# Altium integrated library Microchip Memory SPI Serial EEPROM.IntLib: 451 symbols (part 4 of 11)
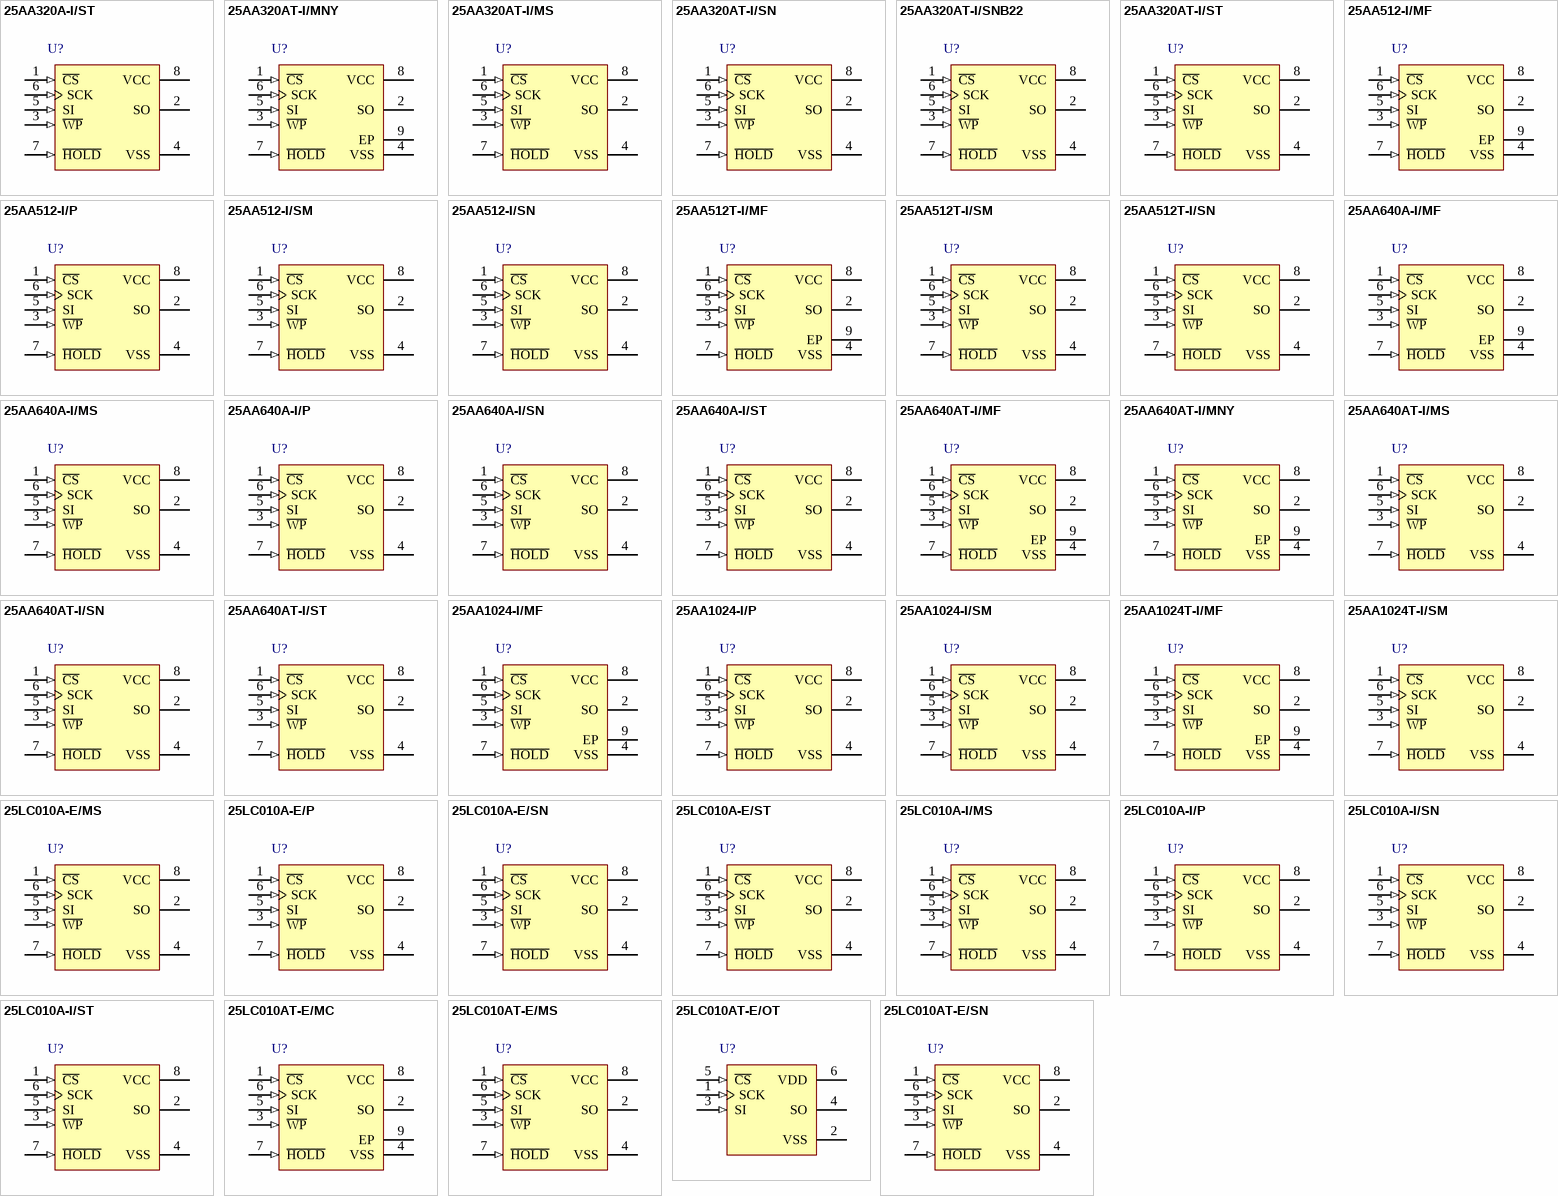
[diagram p14: symbols 25AA320A-I/ST to 25LC010AT-E/SN]

## 25AA512-I/MF
designator U?
512 Kbit SPI Bus Serial EEPROM, 8-Pin DFN, Industrial Temperature; Published: 29-Jan-2009; DatasheetVersion: revE, May-2008; PackageVersion: revBB, Aug-2009; PackageReference: DFNS-MF8_PS; Publisher: Altium Limited; PackageDescription: 8-Lead Plastic Dual Flat, No Lead Package (MF) - 6x5 mm Body [DFN-S] Punch Singulated; Supplier 1: Digi-Key; Supplier Part Number 1: 25AA512-I/MF-ND; ComponentLink1Description: Datasheet; ComponentLink1URL: http://ww1.microchip.com/downloads/en/DeviceDoc/22021E.pdf; ComponentLink2Description: Packaging Specification; ComponentLink2URL: http://www.microchip.com/stellent/groups/techpub_sg/documents/packagingspec/en012702.pdf; ComponentLink3Description: Microchip.com Home; ComponentLink3URL: http://www.microchip.com/
footprint DFNS-MF8_PS (SON, 8-Leads, Body 5x6mm, Pitch 1.27mm)
pins: 1 ~{CS} (in), 2 SO (hiz), 3 ~{WP} (in), 4 VSS (power), 5 SI (in), 6 SCK (in), 7 ~{HOLD} (in), 8 VCC (power), 9 EP

## 25AA512-I/P
designator U?
512 Kbit SPI Bus Serial EEPROM, 8-Pin PDIP, Industrial Temperature; Published: 29-Jan-2009; DatasheetVersion: revE, May-2008; PackageVersion: revBB, Aug-2009; PackageReference: PDIP300-P8; Publisher: Altium Limited; PackageDescription: 8-Lead Plastic Dual In-Line (P) - 300 mil Body [PDIP]; Supplier 1: Digi-Key; Supplier Part Number 1: 25AA512-I/P-ND; Code_JEDEC: MS-001; ComponentLink1Description: Datasheet; ComponentLink1URL: http://ww1.microchip.com/downloads/en/DeviceDoc/22021E.pdf; ComponentLink2Description: Packaging Specification; ComponentLink2URL: http://www.microchip.com/stellent/groups/techpub_sg/documents/packagingspec/en012702.pdf; ComponentLink3Description: Microchip.com Home; ComponentLink3URL: http://www.microchip.com/
footprint PDIP300-P8 (DIP, 8-Leads, Row Spacing 7.62mm, Pitch 2.54mm, Body 9.5x6.6mm)
pins: 1 ~{CS} (in), 2 SO (hiz), 3 ~{WP} (in), 4 VSS (power), 5 SI (in), 6 SCK (in), 7 ~{HOLD} (in), 8 VCC (power)

## 25AA512-I/SM
designator U?
512 Kbit SPI Bus Serial EEPROM, 8-Pin SOIC, Industrial Temperature; Published: 29-Jan-2009; DatasheetVersion: revE, May-2008; PackageVersion: revBB, Aug-2009; PackageReference: SOIJ-SM8; Publisher: Altium Limited; PackageDescription: 8-Lead Plastic Small Outline (SM) - Medium, 5.28 mm Body [SOIJ]; Supplier 1: Digi-Key; Supplier Part Number 1: 25AA512-I/SM-ND; ComponentLink1Description: Datasheet; ComponentLink1URL: http://ww1.microchip.com/downloads/en/DeviceDoc/22021E.pdf; ComponentLink2Description: Packaging Specification; ComponentLink2URL: http://www.microchip.com/stellent/groups/techpub_sg/documents/packagingspec/en012702.pdf; ComponentLink3Description: Microchip.com Home; ComponentLink3URL: http://www.microchip.com/
footprint SOIJ-SM8_N (SOP, 8-Leads, Body 5.2x5.2mm, Pitch 1.27mm, IPC Medium Density)
footprint SOIJ-SM8_L (SOP, 8-Leads, Body 5.2x5.2mm, Pitch 1.27mm, IPC High Density)
footprint SOIJ-SM8_M (SOP, 8-Leads, Body 5.2x5.2mm, Pitch 1.27mm, IPC Low Density)
pins: 1 ~{CS} (in), 2 SO (hiz), 3 ~{WP} (in), 4 VSS (power), 5 SI (in), 6 SCK (in), 7 ~{HOLD} (in), 8 VCC (power)

## 25AA512-I/SN
designator U?
512 Kbit SPI Bus Serial EEPROM, 8-Pin SOIC, Industrial Temperature; Published: 29-Jan-2009; DatasheetVersion: revE, May-2008; PackageVersion: revBB, Aug-2009; PackageReference: SOIC-SN8; Publisher: Altium Limited; PackageDescription: 8-Lead Plastic Small Outline (SN) - Narrow, 3.90mm Body [SOIC]; Supplier 1: Digi-Key; Supplier Part Number 1: 25AA512-I/SN-ND; Code_JEDEC: MS-012; Code_IPC: SOIC127P600-8; ComponentLink1Description: Datasheet; ComponentLink1URL: http://ww1.microchip.com/downloads/en/DeviceDoc/22021E.pdf; ComponentLink2Description: Packaging Specification; ComponentLink2URL: http://www.microchip.com/stellent/groups/techpub_sg/documents/packagingspec/en012702.pdf; ComponentLink3Description: Microchip.com Home; ComponentLink3URL: http://www.microchip.com/
footprint SOIC-SN8_N (SOIC, 8-Leads, Body 4.9x3.8mm, Pitch 1.27mm, IPC Medium Density)
footprint SOIC-SN8_L (SOIC, 8-Leads, Body 4.9x3.8mm, Pitch 1.27mm, IPC High Density)
footprint SOIC-SN8_M (SOIC, 8-Leads, Body 4.9x3.8mm, Pitch 1.27mm, IPC Low Density)
pins: 1 ~{CS} (in), 2 SO (hiz), 3 ~{WP} (in), 4 VSS (power), 5 SI (in), 6 SCK (in), 7 ~{HOLD} (in), 8 VCC (power)

## 25AA512T-I/MF
designator U?
512 Kbit SPI Bus Serial EEPROM, 8-Pin DFN, Industrial Temperature, Tape and Reel; Published: 29-Jan-2009; DatasheetVersion: revE, May-2008; PackageVersion: revBB, Aug-2009; PackageReference: DFNS-MF8_PS; Publisher: Altium Limited; PackageDescription: 8-Lead Plastic Dual Flat, No Lead Package (MF) - 6x5 mm Body [DFN-S] Punch Singulated; Supplier 1: Digi-Key; Supplier Part Number 1: 25AA512T-I/MFTR-ND; ComponentLink1Description: Datasheet; ComponentLink1URL: http://ww1.microchip.com/downloads/en/DeviceDoc/22021E.pdf; ComponentLink2Description: Packaging Specification; ComponentLink2URL: http://www.microchip.com/stellent/groups/techpub_sg/documents/packagingspec/en012702.pdf; ComponentLink3Description: Microchip.com Home; ComponentLink3URL: http://www.microchip.com/
footprint DFNS-MF8_PS (SON, 8-Leads, Body 5x6mm, Pitch 1.27mm)
pins: 1 ~{CS} (in), 2 SO (hiz), 3 ~{WP} (in), 4 VSS (power), 5 SI (in), 6 SCK (in), 7 ~{HOLD} (in), 8 VCC (power), 9 EP

## 25AA512T-I/SM
designator U?
512 Kbit SPI Bus Serial EEPROM, 8-Pin SOIC, Industrial Temperature, Tape and Reel; Published: 29-Jan-2009; DatasheetVersion: revE, May-2008; PackageVersion: revBB, Aug-2009; PackageReference: SOIJ-SM8; Publisher: Altium Limited; PackageDescription: 8-Lead Plastic Small Outline (SM) - Medium, 5.28 mm Body [SOIJ]; Supplier 1: Digi-Key; Supplier Part Number 1: 25AA512T-I/SMTR-ND; ComponentLink1Description: Datasheet; ComponentLink1URL: http://ww1.microchip.com/downloads/en/DeviceDoc/22021E.pdf; ComponentLink2Description: Packaging Specification; ComponentLink2URL: http://www.microchip.com/stellent/groups/techpub_sg/documents/packagingspec/en012702.pdf; ComponentLink3Description: Microchip.com Home; ComponentLink3URL: http://www.microchip.com/
footprint SOIJ-SM8_N (SOP, 8-Leads, Body 5.2x5.2mm, Pitch 1.27mm, IPC Medium Density)
footprint SOIJ-SM8_L (SOP, 8-Leads, Body 5.2x5.2mm, Pitch 1.27mm, IPC High Density)
footprint SOIJ-SM8_M (SOP, 8-Leads, Body 5.2x5.2mm, Pitch 1.27mm, IPC Low Density)
pins: 1 ~{CS} (in), 2 SO (hiz), 3 ~{WP} (in), 4 VSS (power), 5 SI (in), 6 SCK (in), 7 ~{HOLD} (in), 8 VCC (power)

## 25AA512T-I/SN
designator U?
512 Kbit SPI Bus Serial EEPROM, 8-Pin SOIC, Industrial Temperature, Tape and Reel; Published: 29-Jan-2009; DatasheetVersion: revE, May-2008; PackageVersion: revBB, Aug-2009; PackageReference: SOIC-SN8; Publisher: Altium Limited; PackageDescription: 8-Lead Plastic Small Outline (SN) - Narrow, 3.90mm Body [SOIC]; Supplier 1: Digi-Key; Supplier Part Number 1: 25AA512T-I/SNTR-ND; Code_JEDEC: MS-012; Code_IPC: SOIC127P600-8; ComponentLink1Description: Datasheet; ComponentLink1URL: http://ww1.microchip.com/downloads/en/DeviceDoc/22021E.pdf; ComponentLink2Description: Packaging Specification; ComponentLink2URL: http://www.microchip.com/stellent/groups/techpub_sg/documents/packagingspec/en012702.pdf; ComponentLink3Description: Microchip.com Home; ComponentLink3URL: http://www.microchip.com/
footprint SOIC-SN8_N (SOIC, 8-Leads, Body 4.9x3.8mm, Pitch 1.27mm, IPC Medium Density)
footprint SOIC-SN8_L (SOIC, 8-Leads, Body 4.9x3.8mm, Pitch 1.27mm, IPC High Density)
footprint SOIC-SN8_M (SOIC, 8-Leads, Body 4.9x3.8mm, Pitch 1.27mm, IPC Low Density)
pins: 1 ~{CS} (in), 2 SO (hiz), 3 ~{WP} (in), 4 VSS (power), 5 SI (in), 6 SCK (in), 7 ~{HOLD} (in), 8 VCC (power)

## 25AA640A-I/MF
designator U?
64K SPI Bus Serial EEPROM, 8-Pin DFN, Industrial Temperature; Published: 29-Jan-2009; LatestRevisionDate: 02-Dec-2009; LatestRevisionNote: Updated to datasheet revision D, Jan-2008; DatasheetVersion: revD, Oct-2008; PackageVersion: revBB, Aug-2009; PackageReference: DFNS-MF8_PS; Publisher: Altium Limited; PackageDescription: 8-Lead Plastic Dual Flat, No Lead Package (MF) - 6x5 mm Body [DFN-S] Punch Singulated; ComponentLink1Description: Datasheet; ComponentLink1URL: http://ww1.microchip.com/downloads/en/DeviceDoc/21830D.pdf; ComponentLink2Description: Packaging Specification; ComponentLink2URL: http://www.microchip.com/stellent/groups/techpub_sg/documents/packagingspec/en012702.pdf; ComponentLink3Description: Microchip.com Home; ComponentLink3URL: http://www.microchip.com/
footprint DFNS-MF8_PS (SON, 8-Leads, Body 5x6mm, Pitch 1.27mm)
pins: 1 ~{CS} (in), 2 SO (hiz), 3 ~{WP} (in), 4 VSS (power), 5 SI (in), 6 SCK (in), 7 ~{HOLD} (in), 8 VCC (power), 9 EP

## 25AA640A-I/MS
designator U?
64K SPI Bus Serial EEPROM, 8-Pin MSOP, Industrial Temperature; Published: 29-Jan-2009; LatestRevisionDate: 02-Dec-2009; LatestRevisionNote: Updated to datasheet revision D, Jan-2008; DatasheetVersion: revD, Oct-2008; PackageVersion: revBB, Aug-2009; PackageReference: MSOP-MS8; Publisher: Altium Limited; PackageDescription: 8-Lead Plastic Micro Small Outline Package (MS) [MSOP]; Supplier 1: Digi-Key; Supplier Part Number 1: 25AA640A-I/MS-ND; Supplier 2: Farnell; Supplier Part Number 2: 1818512; ComponentLink1Description: Datasheet; ComponentLink1URL: http://ww1.microchip.com/downloads/en/DeviceDoc/21830D.pdf; ComponentLink2Description: Packaging Specification; ComponentLink2URL: http://www.microchip.com/stellent/groups/techpub_sg/documents/packagingspec/en012702.pdf; ComponentLink3Description: Microchip.com Home; ComponentLink3URL: http://www.microchip.com/
footprint MSOP-MS8_N (TSOP, 8-Leads, Body 3x3mm, Pitch 0.65mm, IPC Medium Density)
footprint MSOP-MS8_L (TSOP, 8-Leads, Body 3x3mm, Pitch 0.65mm, IPC High Density)
footprint MSOP-MS8_M (TSOP, 8-Leads, Body 3x3mm, Pitch 0.65mm, IPC Low Density)
pins: 1 ~{CS} (in), 2 SO (hiz), 3 ~{WP} (in), 4 VSS (power), 5 SI (in), 6 SCK (in), 7 ~{HOLD} (in), 8 VCC (power)

## 25AA640A-I/P
designator U?
64K SPI Bus Serial EEPROM, 8-Pin PDIP, Industrial Temperature; Published: 29-Jan-2009; LatestRevisionDate: 02-Dec-2009; LatestRevisionNote: Updated to datasheet revision D, Jan-2008; DatasheetVersion: revD, Oct-2008; PackageVersion: revBB, Aug-2009; PackageReference: PDIP300-P8; Publisher: Altium Limited; PackageDescription: 8-Lead Plastic Dual In-Line (P) - 300 mil Body [PDIP]; Supplier 1: Digi-Key; Supplier Part Number 1: 25AA640A-I/P-ND; Code_JEDEC: MS-001; ComponentLink1Description: Datasheet; ComponentLink1URL: http://ww1.microchip.com/downloads/en/DeviceDoc/21830D.pdf; ComponentLink2Description: Packaging Specification; ComponentLink2URL: http://www.microchip.com/stellent/groups/techpub_sg/documents/packagingspec/en012702.pdf; ComponentLink3Description: Microchip.com Home; ComponentLink3URL: http://www.microchip.com/
footprint PDIP300-P8 (DIP, 8-Leads, Row Spacing 7.62mm, Pitch 2.54mm, Body 9.5x6.6mm)
pins: 1 ~{CS} (in), 2 SO (hiz), 3 ~{WP} (in), 4 VSS (power), 5 SI (in), 6 SCK (in), 7 ~{HOLD} (in), 8 VCC (power)

## 25AA640A-I/SN
designator U?
64K SPI Bus Serial EEPROM, 8-Pin SOIC, Industrial Temperature; Published: 29-Jan-2009; LatestRevisionDate: 02-Dec-2009; LatestRevisionNote: Updated to datasheet revision D, Jan-2008; DatasheetVersion: revD, Oct-2008; PackageVersion: revBB, Aug-2009; PackageReference: SOIC-SN8; Publisher: Altium Limited; PackageDescription: 8-Lead Plastic Small Outline (SN) - Narrow, 3.90mm Body [SOIC]; Supplier 1: Digi-Key; Supplier Part Number 1: 25AA640A-I/SN-ND; Supplier 2: Farnell; Supplier Part Number 2: 1788348; Code_JEDEC: MS-012; Code_IPC: SOIC127P600-8; ComponentLink1Description: Datasheet; ComponentLink1URL: http://ww1.microchip.com/downloads/en/DeviceDoc/21830D.pdf; ComponentLink2Description: Packaging Specification; ComponentLink2URL: http://www.microchip.com/stellent/groups/techpub_sg/documents/packagingspec/en012702.pdf; ComponentLink3Description: Microchip.com Home; ComponentLink3URL: http://www.microchip.com/
footprint SOIC-SN8_N (SOIC, 8-Leads, Body 4.9x3.8mm, Pitch 1.27mm, IPC Medium Density)
footprint SOIC-SN8_L (SOIC, 8-Leads, Body 4.9x3.8mm, Pitch 1.27mm, IPC High Density)
footprint SOIC-SN8_M (SOIC, 8-Leads, Body 4.9x3.8mm, Pitch 1.27mm, IPC Low Density)
pins: 1 ~{CS} (in), 2 SO (hiz), 3 ~{WP} (in), 4 VSS (power), 5 SI (in), 6 SCK (in), 7 ~{HOLD} (in), 8 VCC (power)

## 25AA640A-I/ST
designator U?
64K SPI Bus Serial EEPROM, 8-Pin TSSOP, Industrial Temperature; Published: 29-Jan-2009; LatestRevisionDate: 02-Dec-2009; LatestRevisionNote: Updated to datasheet revision D, Jan-2008; DatasheetVersion: revD, Oct-2008; PackageVersion: revBB, Aug-2009; PackageReference: TSSOP-ST8; Publisher: Altium Limited; PackageDescription: 8-Lead Plastic Thin Shrink Small Outline (ST) - 4.4mm Body [TSSOP]; Supplier 1: Digi-Key; Supplier Part Number 1: 25AA640A-I/ST-ND; Supplier 2: Farnell; Supplier Part Number 2: 1818513; Code_JEDEC: MO-153; ComponentLink1Description: Datasheet; ComponentLink1URL: http://ww1.microchip.com/downloads/en/DeviceDoc/21830D.pdf; ComponentLink2Description: Packaging Specification; ComponentLink2URL: http://www.microchip.com/stellent/groups/techpub_sg/documents/packagingspec/en012702.pdf; ComponentLink3Description: Microchip.com Home; ComponentLink3URL: http://www.microchip.com/
footprint TSSOP-ST8_N (TSOP, 8-Leads, Body 3x4.4mm, Pitch 0.65mm, IPC Medium Density)
footprint TSSOP-ST8_L (TSOP, 8-Leads, Body 3x4.4mm, Pitch 0.65mm, IPC High Density)
footprint TSSOP-ST8_M (TSOP, 8-Leads, Body 3x4.4mm, Pitch 0.65mm, IPC Low Density)
pins: 1 ~{CS} (in), 2 SO (hiz), 3 ~{WP} (in), 4 VSS (power), 5 SI (in), 6 SCK (in), 7 ~{HOLD} (in), 8 VCC (power)

## 25AA640AT-I/MF
designator U?
64K SPI Bus Serial EEPROM, 8-Pin DFN, Industrial Temperature, Tape and Reel; Published: 29-Jan-2009; LatestRevisionDate: 02-Dec-2009; LatestRevisionNote: Updated to datasheet revision D, Jan-2008; DatasheetVersion: revD, Oct-2008; PackageVersion: revBB, Aug-2009; PackageReference: DFNS-MF8_PS; Publisher: Altium Limited; PackageDescription: 8-Lead Plastic Dual Flat, No Lead Package (MF) - 6x5 mm Body [DFN-S] Punch Singulated; ComponentLink1Description: Datasheet; ComponentLink1URL: http://ww1.microchip.com/downloads/en/DeviceDoc/21830D.pdf; ComponentLink2Description: Packaging Specification; ComponentLink2URL: http://www.microchip.com/stellent/groups/techpub_sg/documents/packagingspec/en012702.pdf; ComponentLink3Description: Microchip.com Home; ComponentLink3URL: http://www.microchip.com/
footprint DFNS-MF8_PS (SON, 8-Leads, Body 5x6mm, Pitch 1.27mm)
pins: 1 ~{CS} (in), 2 SO (hiz), 3 ~{WP} (in), 4 VSS (power), 5 SI (in), 6 SCK (in), 7 ~{HOLD} (in), 8 VCC (power), 9 EP

## 25AA640AT-I/MNY
designator U?
64K SPI Bus Serial EEPROM, 8-Pin TDFN, Industrial Temperature, Tape and Reel; Published: 2-Dec-2009; DatasheetVersion: revD, Oct-2008; PackageVersion: revBB, Aug-2009; PackageReference: TDFN-MN8; Publisher: Altium Limited; PackageDescription: 8-Lead Plastic Dual Flat, No Lead Package (MN) - 2x3x0.75mm Body [TDFN]; Supplier 1: Digi-Key; Supplier Part Number 1: 25AA640AT-I/MNYTR-ND; Supplier 2: Digi-Key; Supplier Part Number 2: 25AA640AT-I/MNYCT-ND; Supplier 3: Digi-Key; Supplier Part Number 3: 25AA640AT-I/MNYDKR-ND; ComponentLink1Description: Datasheet; ComponentLink1URL: http://ww1.microchip.com/downloads/en/DeviceDoc/21830D.pdf; ComponentLink2Description: Packaging Specification; ComponentLink2URL: http://www.microchip.com/stellent/groups/techpub_sg/documents/packagingspec/en012702.pdf; ComponentLink3Description: Microchip.com Home; ComponentLink3URL: http://www.microchip.com/
footprint TDFN-MN8 (SON, 8-Leads, Body 2x3mm, Pitch 0.5mm, Microchip Recommended)
pins: 1 ~{CS} (in), 2 SO (hiz), 3 ~{WP} (in), 4 VSS (power), 5 SI (in), 6 SCK (in), 7 ~{HOLD} (in), 8 VCC (power), 9 EP

## 25AA640AT-I/MS
designator U?
64K SPI Bus Serial EEPROM, 8-Pin MSOP, Industrial Temperature, Tape and Reel; Published: 29-Jan-2009; LatestRevisionDate: 02-Dec-2009; LatestRevisionNote: Updated to datasheet revision D, Jan-2008; DatasheetVersion: revD, Oct-2008; PackageVersion: revBB, Aug-2009; PackageReference: MSOP-MS8; Publisher: Altium Limited; PackageDescription: 8-Lead Plastic Micro Small Outline Package (MS) [MSOP]; Supplier 1: Digi-Key; Supplier Part Number 1: 25AA640AT-I/MSTR-ND; Supplier 2: Digi-Key; Supplier Part Number 2: 25AA640AT-I/MSCT-ND; Supplier 3: Digi-Key; Supplier Part Number 3: 25AA640AT-I/MSDKR-ND; ComponentLink1Description: Datasheet; ComponentLink1URL: http://ww1.microchip.com/downloads/en/DeviceDoc/21830D.pdf; ComponentLink2Description: Packaging Specification; ComponentLink2URL: http://www.microchip.com/stellent/groups/techpub_sg/documents/packagingspec/en012702.pdf; ComponentLink3Description: Microchip.com Home; ComponentLink3URL: http://www.microchip.com/
footprint MSOP-MS8_N (TSOP, 8-Leads, Body 3x3mm, Pitch 0.65mm, IPC Medium Density)
footprint MSOP-MS8_L (TSOP, 8-Leads, Body 3x3mm, Pitch 0.65mm, IPC High Density)
footprint MSOP-MS8_M (TSOP, 8-Leads, Body 3x3mm, Pitch 0.65mm, IPC Low Density)
pins: 1 ~{CS} (in), 2 SO (hiz), 3 ~{WP} (in), 4 VSS (power), 5 SI (in), 6 SCK (in), 7 ~{HOLD} (in), 8 VCC (power)

## 25AA640AT-I/SN
designator U?
64K SPI Bus Serial EEPROM, 8-Pin SOIC, Industrial Temperature, Tape and Reel; Published: 29-Jan-2009; LatestRevisionDate: 02-Dec-2009; LatestRevisionNote: Updated to datasheet revision D, Jan-2008; DatasheetVersion: revD, Oct-2008; PackageVersion: revBB, Aug-2009; PackageReference: SOIC-SN8; Publisher: Altium Limited; PackageDescription: 8-Lead Plastic Small Outline (SN) - Narrow, 3.90mm Body [SOIC]; Supplier 1: Digi-Key; Supplier Part Number 1: 25AA640AT-I/SNTR-ND; Code_JEDEC: MS-012; Code_IPC: SOIC127P600-8; ComponentLink1Description: Datasheet; ComponentLink1URL: http://ww1.microchip.com/downloads/en/DeviceDoc/21830D.pdf; ComponentLink2Description: Packaging Specification; ComponentLink2URL: http://www.microchip.com/stellent/groups/techpub_sg/documents/packagingspec/en012702.pdf; ComponentLink3Description: Microchip.com Home; ComponentLink3URL: http://www.microchip.com/
footprint SOIC-SN8_N (SOIC, 8-Leads, Body 4.9x3.8mm, Pitch 1.27mm, IPC Medium Density)
footprint SOIC-SN8_L (SOIC, 8-Leads, Body 4.9x3.8mm, Pitch 1.27mm, IPC High Density)
footprint SOIC-SN8_M (SOIC, 8-Leads, Body 4.9x3.8mm, Pitch 1.27mm, IPC Low Density)
pins: 1 ~{CS} (in), 2 SO (hiz), 3 ~{WP} (in), 4 VSS (power), 5 SI (in), 6 SCK (in), 7 ~{HOLD} (in), 8 VCC (power)

## 25AA640AT-I/ST
designator U?
64K SPI Bus Serial EEPROM, 8-Pin TSSOP, Industrial Temperature, Tape and Reel; Published: 29-Jan-2009; LatestRevisionDate: 02-Dec-2009; LatestRevisionNote: Updated to datasheet revision D, Jan-2008; DatasheetVersion: revD, Oct-2008; PackageVersion: revBB, Aug-2009; PackageReference: TSSOP-ST8; Publisher: Altium Limited; PackageDescription: 8-Lead Plastic Thin Shrink Small Outline (ST) - 4.4mm Body [TSSOP]; Supplier 1: Digi-Key; Supplier Part Number 1: 25AA640AT-I/STTR-ND; Code_JEDEC: MO-153; ComponentLink1Description: Datasheet; ComponentLink1URL: http://ww1.microchip.com/downloads/en/DeviceDoc/21830D.pdf; ComponentLink2Description: Packaging Specification; ComponentLink2URL: http://www.microchip.com/stellent/groups/techpub_sg/documents/packagingspec/en012702.pdf; ComponentLink3Description: Microchip.com Home; ComponentLink3URL: http://www.microchip.com/
footprint TSSOP-ST8_N (TSOP, 8-Leads, Body 3x4.4mm, Pitch 0.65mm, IPC Medium Density)
footprint TSSOP-ST8_L (TSOP, 8-Leads, Body 3x4.4mm, Pitch 0.65mm, IPC High Density)
footprint TSSOP-ST8_M (TSOP, 8-Leads, Body 3x4.4mm, Pitch 0.65mm, IPC Low Density)
pins: 1 ~{CS} (in), 2 SO (hiz), 3 ~{WP} (in), 4 VSS (power), 5 SI (in), 6 SCK (in), 7 ~{HOLD} (in), 8 VCC (power)

## 25AA1024-I/MF
designator U?
1 Mbit SPI Bus Serial EEPROM, 8-Pin DFN, Industrial Temperature; Published: 29-Jan-2009; DatasheetVersion: revF, May-2008; PackageVersion: revBB, Aug-2009; PackageReference: DFNS-MF8_PS; Publisher: Altium Limited; PackageDescription: 8-Lead Plastic Dual Flat, No Lead Package (MF) - 6x5 mm Body [DFN-S] Punch Singulated; Supplier 1: Digi-Key; Supplier Part Number 1: 25AA1024-I/MF-ND; Supplier 2: Farnell; Supplier Part Number 2: 1617312; ComponentLink1Description: Datasheet; ComponentLink1URL: http://ww1.microchip.com/downloads/en/DeviceDoc/21836F.pdf; ComponentLink2Description: Packaging Specification; ComponentLink2URL: http://www.microchip.com/stellent/groups/techpub_sg/documents/packagingspec/en012702.pdf; ComponentLink3Description: Microchip.com Home; ComponentLink3URL: http://www.microchip.com/
footprint DFNS-MF8_PS (SON, 8-Leads, Body 5x6mm, Pitch 1.27mm)
pins: 1 ~{CS} (in), 2 SO (hiz), 3 ~{WP} (in), 4 VSS (power), 5 SI (in), 6 SCK (in), 7 ~{HOLD} (in), 8 VCC (power), 9 EP

## 25AA1024-I/P
designator U?
1 Mbit SPI Bus Serial EEPROM, 8-Pin PDIP, Industrial Temperature; Published: 29-Jan-2009; DatasheetVersion: revF, May-2008; PackageVersion: revBB, Aug-2009; PackageReference: PDIP300-P8; Publisher: Altium Limited; PackageDescription: 8-Lead Plastic Dual In-Line (P) - 300 mil Body [PDIP]; Supplier 1: Digi-Key; Supplier Part Number 1: 25AA1024-I/P-ND; Supplier 2: Farnell; Supplier Part Number 2: 1548441; Code_JEDEC: MS-001; ComponentLink1Description: Datasheet; ComponentLink1URL: http://ww1.microchip.com/downloads/en/DeviceDoc/21836F.pdf; ComponentLink2Description: Packaging Specification; ComponentLink2URL: http://www.microchip.com/stellent/groups/techpub_sg/documents/packagingspec/en012702.pdf; ComponentLink3Description: Microchip.com Home; ComponentLink3URL: http://www.microchip.com/
footprint PDIP300-P8 (DIP, 8-Leads, Row Spacing 7.62mm, Pitch 2.54mm, Body 9.5x6.6mm)
pins: 1 ~{CS} (in), 2 SO (hiz), 3 ~{WP} (in), 4 VSS (power), 5 SI (in), 6 SCK (in), 7 ~{HOLD} (in), 8 VCC (power)

## 25AA1024-I/SM
designator U?
1 Mbit SPI Bus Serial EEPROM, 8-Pin SOIC, Industrial Temperature; Published: 29-Jan-2009; DatasheetVersion: revF, May-2008; PackageVersion: revBB, Aug-2009; PackageReference: SOIJ-SM8; Publisher: Altium Limited; PackageDescription: 8-Lead Plastic Small Outline (SM) - Medium, 5.28 mm Body [SOIJ]; Supplier 1: Digi-Key; Supplier Part Number 1: 25AA1024-I/SM-ND; Supplier 2: Farnell; Supplier Part Number 2: 1555678; ComponentLink1Description: Datasheet; ComponentLink1URL: http://ww1.microchip.com/downloads/en/DeviceDoc/21836F.pdf; ComponentLink2Description: Packaging Specification; ComponentLink2URL: http://www.microchip.com/stellent/groups/techpub_sg/documents/packagingspec/en012702.pdf; ComponentLink3Description: Microchip.com Home; ComponentLink3URL: http://www.microchip.com/
footprint SOIJ-SM8_N (SOP, 8-Leads, Body 5.2x5.2mm, Pitch 1.27mm, IPC Medium Density)
footprint SOIJ-SM8_L (SOP, 8-Leads, Body 5.2x5.2mm, Pitch 1.27mm, IPC High Density)
footprint SOIJ-SM8_M (SOP, 8-Leads, Body 5.2x5.2mm, Pitch 1.27mm, IPC Low Density)
pins: 1 ~{CS} (in), 2 SO (hiz), 3 ~{WP} (in), 4 VSS (power), 5 SI (in), 6 SCK (in), 7 ~{HOLD} (in), 8 VCC (power)

## 25AA1024T-I/MF
designator U?
1 Mbit SPI Bus Serial EEPROM, 8-Pin DFN, Industrial Temperature, Tape and Reel; Published: 29-Jan-2009; DatasheetVersion: revF, May-2008; PackageVersion: revBB, Aug-2009; PackageReference: DFNS-MF8_PS; Publisher: Altium Limited; PackageDescription: 8-Lead Plastic Dual Flat, No Lead Package (MF) - 6x5 mm Body [DFN-S] Punch Singulated; Supplier 1: Digi-Key; Supplier Part Number 1: 25AA1024T-I/MFTR-ND; ComponentLink1Description: Datasheet; ComponentLink1URL: http://ww1.microchip.com/downloads/en/DeviceDoc/21836F.pdf; ComponentLink2Description: Packaging Specification; ComponentLink2URL: http://www.microchip.com/stellent/groups/techpub_sg/documents/packagingspec/en012702.pdf; ComponentLink3Description: Microchip.com Home; ComponentLink3URL: http://www.microchip.com/
footprint DFNS-MF8_PS (SON, 8-Leads, Body 5x6mm, Pitch 1.27mm)
pins: 1 ~{CS} (in), 2 SO (hiz), 3 ~{WP} (in), 4 VSS (power), 5 SI (in), 6 SCK (in), 7 ~{HOLD} (in), 8 VCC (power), 9 EP

## 25AA1024T-I/SM
designator U?
1 Mbit SPI Bus Serial EEPROM, 8-Pin SOIC, Industrial Temperature, Tape and Reel; Published: 29-Jan-2009; DatasheetVersion: revF, May-2008; PackageVersion: revBB, Aug-2009; PackageReference: SOIJ-SM8; Publisher: Altium Limited; PackageDescription: 8-Lead Plastic Small Outline (SM) - Medium, 5.28 mm Body [SOIJ]; Supplier 1: Digi-Key; Supplier Part Number 1: 25AA1024T-I/SMTR-ND; ComponentLink1Description: Datasheet; ComponentLink1URL: http://ww1.microchip.com/downloads/en/DeviceDoc/21836F.pdf; ComponentLink2Description: Packaging Specification; ComponentLink2URL: http://www.microchip.com/stellent/groups/techpub_sg/documents/packagingspec/en012702.pdf; ComponentLink3Description: Microchip.com Home; ComponentLink3URL: http://www.microchip.com/
footprint SOIJ-SM8_N (SOP, 8-Leads, Body 5.2x5.2mm, Pitch 1.27mm, IPC Medium Density)
footprint SOIJ-SM8_L (SOP, 8-Leads, Body 5.2x5.2mm, Pitch 1.27mm, IPC High Density)
footprint SOIJ-SM8_M (SOP, 8-Leads, Body 5.2x5.2mm, Pitch 1.27mm, IPC Low Density)
pins: 1 ~{CS} (in), 2 SO (hiz), 3 ~{WP} (in), 4 VSS (power), 5 SI (in), 6 SCK (in), 7 ~{HOLD} (in), 8 VCC (power)

## 25LC010A-E/MS
designator U?
1K SPI Bus Serial EEPROM, 8-Pin MSOP, Extended Temperature; Published: 29-Jan-2009; LatestRevisionDate: 02-Dec-2009; LatestRevisionNote: Updated to datasheet revision E, Jan-2008; DatasheetVersion: revE, Sep-2008; PackageVersion: revBB, Aug-2009; PackageReference: MSOP-MS8; Publisher: Altium Limited; PackageDescription: 8-Lead Plastic Micro Small Outline Package (MS) [MSOP]; Supplier 1: Digi-Key; Supplier Part Number 1: 25LC010A-E/MS-ND; ComponentLink1Description: Datasheet; ComponentLink1URL: http://ww1.microchip.com/downloads/en/DeviceDoc/21832E.pdf; ComponentLink2Description: Packaging Specification; ComponentLink2URL: http://www.microchip.com/stellent/groups/techpub_sg/documents/packagingspec/en012702.pdf; ComponentLink3Description: Microchip.com Home; ComponentLink3URL: http://www.microchip.com/
footprint MSOP-MS8_N (TSOP, 8-Leads, Body 3x3mm, Pitch 0.65mm, IPC Medium Density)
footprint MSOP-MS8_L (TSOP, 8-Leads, Body 3x3mm, Pitch 0.65mm, IPC High Density)
footprint MSOP-MS8_M (TSOP, 8-Leads, Body 3x3mm, Pitch 0.65mm, IPC Low Density)
pins: 1 ~{CS} (in), 2 SO (hiz), 3 ~{WP} (in), 4 VSS (power), 5 SI (in), 6 SCK (in), 7 ~{HOLD} (in), 8 VCC (power)

## 25LC010A-E/P
designator U?
1K SPI Bus Serial EEPROM, 8-Pin PDIP, Extended Temperature; Published: 29-Jan-2009; LatestRevisionDate: 02-Dec-2009; LatestRevisionNote: Updated to datasheet revision E, Jan-2008; DatasheetVersion: revE, Sep-2008; PackageVersion: revBB, Aug-2009; PackageReference: PDIP300-P8; Publisher: Altium Limited; PackageDescription: 8-Lead Plastic Dual In-Line (P) - 300 mil Body [PDIP]; Supplier 1: Digi-Key; Supplier Part Number 1: 25LC010A-E/P-ND; Code_JEDEC: MS-001; ComponentLink1Description: Datasheet; ComponentLink1URL: http://ww1.microchip.com/downloads/en/DeviceDoc/21832E.pdf; ComponentLink2Description: Packaging Specification; ComponentLink2URL: http://www.microchip.com/stellent/groups/techpub_sg/documents/packagingspec/en012702.pdf; ComponentLink3Description: Microchip.com Home; ComponentLink3URL: http://www.microchip.com/
footprint PDIP300-P8 (DIP, 8-Leads, Row Spacing 7.62mm, Pitch 2.54mm, Body 9.5x6.6mm)
pins: 1 ~{CS} (in), 2 SO (hiz), 3 ~{WP} (in), 4 VSS (power), 5 SI (in), 6 SCK (in), 7 ~{HOLD} (in), 8 VCC (power)

## 25LC010A-E/SN
designator U?
1K SPI Bus Serial EEPROM, 8-Pin SOIC, Extended Temperature; Published: 29-Jan-2009; LatestRevisionDate: 02-Dec-2009; LatestRevisionNote: Updated to datasheet revision E, Jan-2008; DatasheetVersion: revE, Sep-2008; PackageVersion: revBB, Aug-2009; PackageReference: SOIC-SN8; Publisher: Altium Limited; PackageDescription: 8-Lead Plastic Small Outline (SN) - Narrow, 3.90mm Body [SOIC]; Supplier 1: Digi-Key; Supplier Part Number 1: 25LC010A-E/SN-ND; Code_JEDEC: MS-012; Code_IPC: SOIC127P600-8; ComponentLink1Description: Datasheet; ComponentLink1URL: http://ww1.microchip.com/downloads/en/DeviceDoc/21832E.pdf; ComponentLink2Description: Packaging Specification; ComponentLink2URL: http://www.microchip.com/stellent/groups/techpub_sg/documents/packagingspec/en012702.pdf; ComponentLink3Description: Microchip.com Home; ComponentLink3URL: http://www.microchip.com/
footprint SOIC-SN8_N (SOIC, 8-Leads, Body 4.9x3.8mm, Pitch 1.27mm, IPC Medium Density)
footprint SOIC-SN8_L (SOIC, 8-Leads, Body 4.9x3.8mm, Pitch 1.27mm, IPC High Density)
footprint SOIC-SN8_M (SOIC, 8-Leads, Body 4.9x3.8mm, Pitch 1.27mm, IPC Low Density)
pins: 1 ~{CS} (in), 2 SO (hiz), 3 ~{WP} (in), 4 VSS (power), 5 SI (in), 6 SCK (in), 7 ~{HOLD} (in), 8 VCC (power)

## 25LC010A-E/ST
designator U?
1K SPI Bus Serial EEPROM, 8-Pin TSSOP, Extended Temperature; Published: 29-Jan-2009; LatestRevisionDate: 02-Dec-2009; LatestRevisionNote: Updated to datasheet revision E, Jan-2008; DatasheetVersion: revE, Sep-2008; PackageVersion: revBB, Aug-2009; PackageReference: TSSOP-ST8; Publisher: Altium Limited; PackageDescription: 8-Lead Plastic Thin Shrink Small Outline (ST) - 4.4mm Body [TSSOP]; Supplier 1: Digi-Key; Supplier Part Number 1: 25LC010A-E/ST-ND; Code_JEDEC: MO-153; ComponentLink1Description: Datasheet; ComponentLink1URL: http://ww1.microchip.com/downloads/en/DeviceDoc/21832E.pdf; ComponentLink2Description: Packaging Specification; ComponentLink2URL: http://www.microchip.com/stellent/groups/techpub_sg/documents/packagingspec/en012702.pdf; ComponentLink3Description: Microchip.com Home; ComponentLink3URL: http://www.microchip.com/
footprint TSSOP-ST8_N (TSOP, 8-Leads, Body 3x4.4mm, Pitch 0.65mm, IPC Medium Density)
footprint TSSOP-ST8_L (TSOP, 8-Leads, Body 3x4.4mm, Pitch 0.65mm, IPC High Density)
footprint TSSOP-ST8_M (TSOP, 8-Leads, Body 3x4.4mm, Pitch 0.65mm, IPC Low Density)
pins: 1 ~{CS} (in), 2 SO (hiz), 3 ~{WP} (in), 4 VSS (power), 5 SI (in), 6 SCK (in), 7 ~{HOLD} (in), 8 VCC (power)

## 25LC010A-I/MS
designator U?
1K SPI Bus Serial EEPROM, 8-Pin MSOP, Industrial Temperature; Published: 29-Jan-2009; LatestRevisionDate: 02-Dec-2009; LatestRevisionNote: Updated to datasheet revision E, Jan-2008; DatasheetVersion: revE, Sep-2008; PackageVersion: revBB, Aug-2009; PackageReference: MSOP-MS8; Publisher: Altium Limited; PackageDescription: 8-Lead Plastic Micro Small Outline Package (MS) [MSOP]; Supplier 1: Digi-Key; Supplier Part Number 1: 25LC010A-I/MS-ND; Supplier 2: Farnell; Supplier Part Number 2: 1331376; ComponentLink1Description: Datasheet; ComponentLink1URL: http://ww1.microchip.com/downloads/en/DeviceDoc/21832E.pdf; ComponentLink2Description: Packaging Specification; ComponentLink2URL: http://www.microchip.com/stellent/groups/techpub_sg/documents/packagingspec/en012702.pdf; ComponentLink3Description: Microchip.com Home; ComponentLink3URL: http://www.microchip.com/
footprint MSOP-MS8_N (TSOP, 8-Leads, Body 3x3mm, Pitch 0.65mm, IPC Medium Density)
footprint MSOP-MS8_L (TSOP, 8-Leads, Body 3x3mm, Pitch 0.65mm, IPC High Density)
footprint MSOP-MS8_M (TSOP, 8-Leads, Body 3x3mm, Pitch 0.65mm, IPC Low Density)
pins: 1 ~{CS} (in), 2 SO (hiz), 3 ~{WP} (in), 4 VSS (power), 5 SI (in), 6 SCK (in), 7 ~{HOLD} (in), 8 VCC (power)

## 25LC010A-I/P
designator U?
1K SPI Bus Serial EEPROM, 8-Pin PDIP, Industrial Temperature; Published: 29-Jan-2009; LatestRevisionDate: 02-Dec-2009; LatestRevisionNote: Updated to datasheet revision E, Jan-2008; DatasheetVersion: revE, Sep-2008; PackageVersion: revBB, Aug-2009; PackageReference: PDIP300-P8; Publisher: Altium Limited; PackageDescription: 8-Lead Plastic Dual In-Line (P) - 300 mil Body [PDIP]; Supplier 1: Digi-Key; Supplier Part Number 1: 25LC010A-I/P-ND; Supplier 2: Farnell; Supplier Part Number 2: 1331377; Code_JEDEC: MS-001; ComponentLink1Description: Datasheet; ComponentLink1URL: http://ww1.microchip.com/downloads/en/DeviceDoc/21832E.pdf; ComponentLink2Description: Packaging Specification; ComponentLink2URL: http://www.microchip.com/stellent/groups/techpub_sg/documents/packagingspec/en012702.pdf; ComponentLink3Description: Microchip.com Home; ComponentLink3URL: http://www.microchip.com/
footprint PDIP300-P8 (DIP, 8-Leads, Row Spacing 7.62mm, Pitch 2.54mm, Body 9.5x6.6mm)
pins: 1 ~{CS} (in), 2 SO (hiz), 3 ~{WP} (in), 4 VSS (power), 5 SI (in), 6 SCK (in), 7 ~{HOLD} (in), 8 VCC (power)

## 25LC010A-I/SN
designator U?
1K SPI Bus Serial EEPROM, 8-Pin SOIC, Industrial Temperature; Published: 29-Jan-2009; LatestRevisionDate: 02-Dec-2009; LatestRevisionNote: Updated to datasheet revision E, Jan-2008; DatasheetVersion: revE, Sep-2008; PackageVersion: revBB, Aug-2009; PackageReference: SOIC-SN8; Publisher: Altium Limited; PackageDescription: 8-Lead Plastic Small Outline (SN) - Narrow, 3.90mm Body [SOIC]; Supplier 1: Digi-Key; Supplier Part Number 1: 25LC010A-I/SN-ND; Supplier 2: Farnell; Supplier Part Number 2: 1331378; Code_JEDEC: MS-012; Code_IPC: SOIC127P600-8; ComponentLink1Description: Datasheet; ComponentLink1URL: http://ww1.microchip.com/downloads/en/DeviceDoc/21832E.pdf; ComponentLink2Description: Packaging Specification; ComponentLink2URL: http://www.microchip.com/stellent/groups/techpub_sg/documents/packagingspec/en012702.pdf; ComponentLink3Description: Microchip.com Home; ComponentLink3URL: http://www.microchip.com/
footprint SOIC-SN8_N (SOIC, 8-Leads, Body 4.9x3.8mm, Pitch 1.27mm, IPC Medium Density)
footprint SOIC-SN8_L (SOIC, 8-Leads, Body 4.9x3.8mm, Pitch 1.27mm, IPC High Density)
footprint SOIC-SN8_M (SOIC, 8-Leads, Body 4.9x3.8mm, Pitch 1.27mm, IPC Low Density)
pins: 1 ~{CS} (in), 2 SO (hiz), 3 ~{WP} (in), 4 VSS (power), 5 SI (in), 6 SCK (in), 7 ~{HOLD} (in), 8 VCC (power)

## 25LC010A-I/ST
designator U?
1K SPI Bus Serial EEPROM, 8-Pin TSSOP, Industrial Temperature; Published: 29-Jan-2009; LatestRevisionDate: 02-Dec-2009; LatestRevisionNote: Updated to datasheet revision E, Jan-2008; DatasheetVersion: revE, Sep-2008; PackageVersion: revBB, Aug-2009; PackageReference: TSSOP-ST8; Publisher: Altium Limited; PackageDescription: 8-Lead Plastic Thin Shrink Small Outline (ST) - 4.4mm Body [TSSOP]; Supplier 1: Digi-Key; Supplier Part Number 1: 25LC010A-I/ST-ND; Code_JEDEC: MO-153; ComponentLink1Description: Datasheet; ComponentLink1URL: http://ww1.microchip.com/downloads/en/DeviceDoc/21832E.pdf; ComponentLink2Description: Packaging Specification; ComponentLink2URL: http://www.microchip.com/stellent/groups/techpub_sg/documents/packagingspec/en012702.pdf; ComponentLink3Description: Microchip.com Home; ComponentLink3URL: http://www.microchip.com/
footprint TSSOP-ST8_N (TSOP, 8-Leads, Body 3x4.4mm, Pitch 0.65mm, IPC Medium Density)
footprint TSSOP-ST8_L (TSOP, 8-Leads, Body 3x4.4mm, Pitch 0.65mm, IPC High Density)
footprint TSSOP-ST8_M (TSOP, 8-Leads, Body 3x4.4mm, Pitch 0.65mm, IPC Low Density)
pins: 1 ~{CS} (in), 2 SO (hiz), 3 ~{WP} (in), 4 VSS (power), 5 SI (in), 6 SCK (in), 7 ~{HOLD} (in), 8 VCC (power)

## 25LC010AT-E/MC
designator U?
1K SPI Bus Serial EEPROM, 8-Pin DFN, Extended Temperature, Tape and Reel; Published: 29-Jan-2009; LatestRevisionDate: 02-Dec-2009; LatestRevisionNote: Updated to datasheet revision E, Jan-2008; DatasheetVersion: revE, Sep-2008; PackageVersion: revBB, Aug-2009; PackageReference: DFN-MC8; Publisher: Altium Limited; PackageDescription: 8-Lead Plastic Dual Flat, No Lead Package (MC) - 2x3x0.9mm Body [DFN]; Supplier 1: Digi-Key; Supplier Part Number 1: 25LC010AT-E/MC-ND; ComponentLink1Description: Datasheet; ComponentLink1URL: http://ww1.microchip.com/downloads/en/DeviceDoc/21832E.pdf; ComponentLink2Description: Packaging Specification; ComponentLink2URL: http://www.microchip.com/stellent/groups/techpub_sg/documents/packagingspec/en012702.pdf; ComponentLink3Description: Microchip.com Home; ComponentLink3URL: http://www.microchip.com/
footprint DFN-MC8 (SON, 8-Leads, Body 2x3mm, Pitch 0.5mm, Microchip Recommended)
pins: 1 ~{CS} (in), 2 SO (hiz), 3 ~{WP} (in), 4 VSS (power), 5 SI (in), 6 SCK (in), 7 ~{HOLD} (in), 8 VCC (power), 9 EP

## 25LC010AT-E/MS
designator U?
1K SPI Bus Serial EEPROM, 8-Pin MSOP, Extended Temperature, Tape and Reel; Published: 29-Jan-2009; LatestRevisionDate: 02-Dec-2009; LatestRevisionNote: Updated to datasheet revision E, Jan-2008; DatasheetVersion: revE, Sep-2008; PackageVersion: revBB, Aug-2009; PackageReference: MSOP-MS8; Publisher: Altium Limited; PackageDescription: 8-Lead Plastic Micro Small Outline Package (MS) [MSOP]; Supplier 1: Digi-Key; Supplier Part Number 1: 25LC010AT-E/MS-ND; ComponentLink1Description: Datasheet; ComponentLink1URL: http://ww1.microchip.com/downloads/en/DeviceDoc/21832E.pdf; ComponentLink2Description: Packaging Specification; ComponentLink2URL: http://www.microchip.com/stellent/groups/techpub_sg/documents/packagingspec/en012702.pdf; ComponentLink3Description: Microchip.com Home; ComponentLink3URL: http://www.microchip.com/
footprint MSOP-MS8_N (TSOP, 8-Leads, Body 3x3mm, Pitch 0.65mm, IPC Medium Density)
footprint MSOP-MS8_L (TSOP, 8-Leads, Body 3x3mm, Pitch 0.65mm, IPC High Density)
footprint MSOP-MS8_M (TSOP, 8-Leads, Body 3x3mm, Pitch 0.65mm, IPC Low Density)
pins: 1 ~{CS} (in), 2 SO (hiz), 3 ~{WP} (in), 4 VSS (power), 5 SI (in), 6 SCK (in), 7 ~{HOLD} (in), 8 VCC (power)

## 25LC010AT-E/OT
designator U?
1K SPI Bus Serial EEPROM, 6-Pin SOT-23, Extended Temperature, Tape and Reel; Published: 29-Jan-2009; LatestRevisionDate: 02-Dec-2009; LatestRevisionNote: Updated to datasheet revision E, Jan-2008; DatasheetVersion: revE, Sep-2008; PackageVersion: revBB, Aug-2009; PackageReference: SOT-23-OT6; Publisher: Altium Limited; PackageDescription: 6-Lead Plastic Small Outline Transistor (OT) [SOT-23]; Supplier 1: Digi-Key; Supplier Part Number 1: 25LC010AT-E/OTTR-ND; Code_IPC: SOT26A-6; ComponentLink1Description: Datasheet; ComponentLink1URL: http://ww1.microchip.com/downloads/en/DeviceDoc/21832E.pdf; ComponentLink2Description: Packaging Specification; ComponentLink2URL: http://www.microchip.com/stellent/groups/techpub_sg/documents/packagingspec/en012702.pdf; ComponentLink3Description: Microchip.com Home; ComponentLink3URL: http://www.microchip.com/
footprint SOT-23-OT6_N (SOT23, 6-Leads, Body 2.9x1.6mm, Pitch 0.95mm, Lead Span 2.7mm, IPC Medium Density)
footprint SOT-23-OT6_L (SOT23, 6-Leads, Body 2.9x1.6mm, Pitch 0.95mm, Lead Span 2.7mm, IPC High Density)
footprint SOT-23-OT6_M (SOT23, 6-Leads, Body 2.9x1.6mm, Pitch 0.95mm, Lead Span 2.7mm, IPC Low Density)
pins: 1 SCK (in), 2 VSS (power), 3 SI (in), 4 SO (hiz), 5 ~{CS} (in), 6 VDD (power)

## 25LC010AT-E/SN
designator U?
1K SPI Bus Serial EEPROM, 8-Pin SOIC, Extended Temperature, Tape and Reel; Published: 29-Jan-2009; LatestRevisionDate: 02-Dec-2009; LatestRevisionNote: Updated to datasheet revision E, Jan-2008; DatasheetVersion: revE, Sep-2008; PackageVersion: revBB, Aug-2009; PackageReference: SOIC-SN8; Publisher: Altium Limited; PackageDescription: 8-Lead Plastic Small Outline (SN) - Narrow, 3.90mm Body [SOIC]; Supplier 1: Digi-Key; Supplier Part Number 1: 25LC010AT-E/SN-ND; Code_JEDEC: MS-012; Code_IPC: SOIC127P600-8; ComponentLink1Description: Datasheet; ComponentLink1URL: http://ww1.microchip.com/downloads/en/DeviceDoc/21832E.pdf; ComponentLink2Description: Packaging Specification; ComponentLink2URL: http://www.microchip.com/stellent/groups/techpub_sg/documents/packagingspec/en012702.pdf; ComponentLink3Description: Microchip.com Home; ComponentLink3URL: http://www.microchip.com/
footprint SOIC-SN8_N (SOIC, 8-Leads, Body 4.9x3.8mm, Pitch 1.27mm, IPC Medium Density)
footprint SOIC-SN8_L (SOIC, 8-Leads, Body 4.9x3.8mm, Pitch 1.27mm, IPC High Density)
footprint SOIC-SN8_M (SOIC, 8-Leads, Body 4.9x3.8mm, Pitch 1.27mm, IPC Low Density)
pins: 1 ~{CS} (in), 2 SO (hiz), 3 ~{WP} (in), 4 VSS (power), 5 SI (in), 6 SCK (in), 7 ~{HOLD} (in), 8 VCC (power)

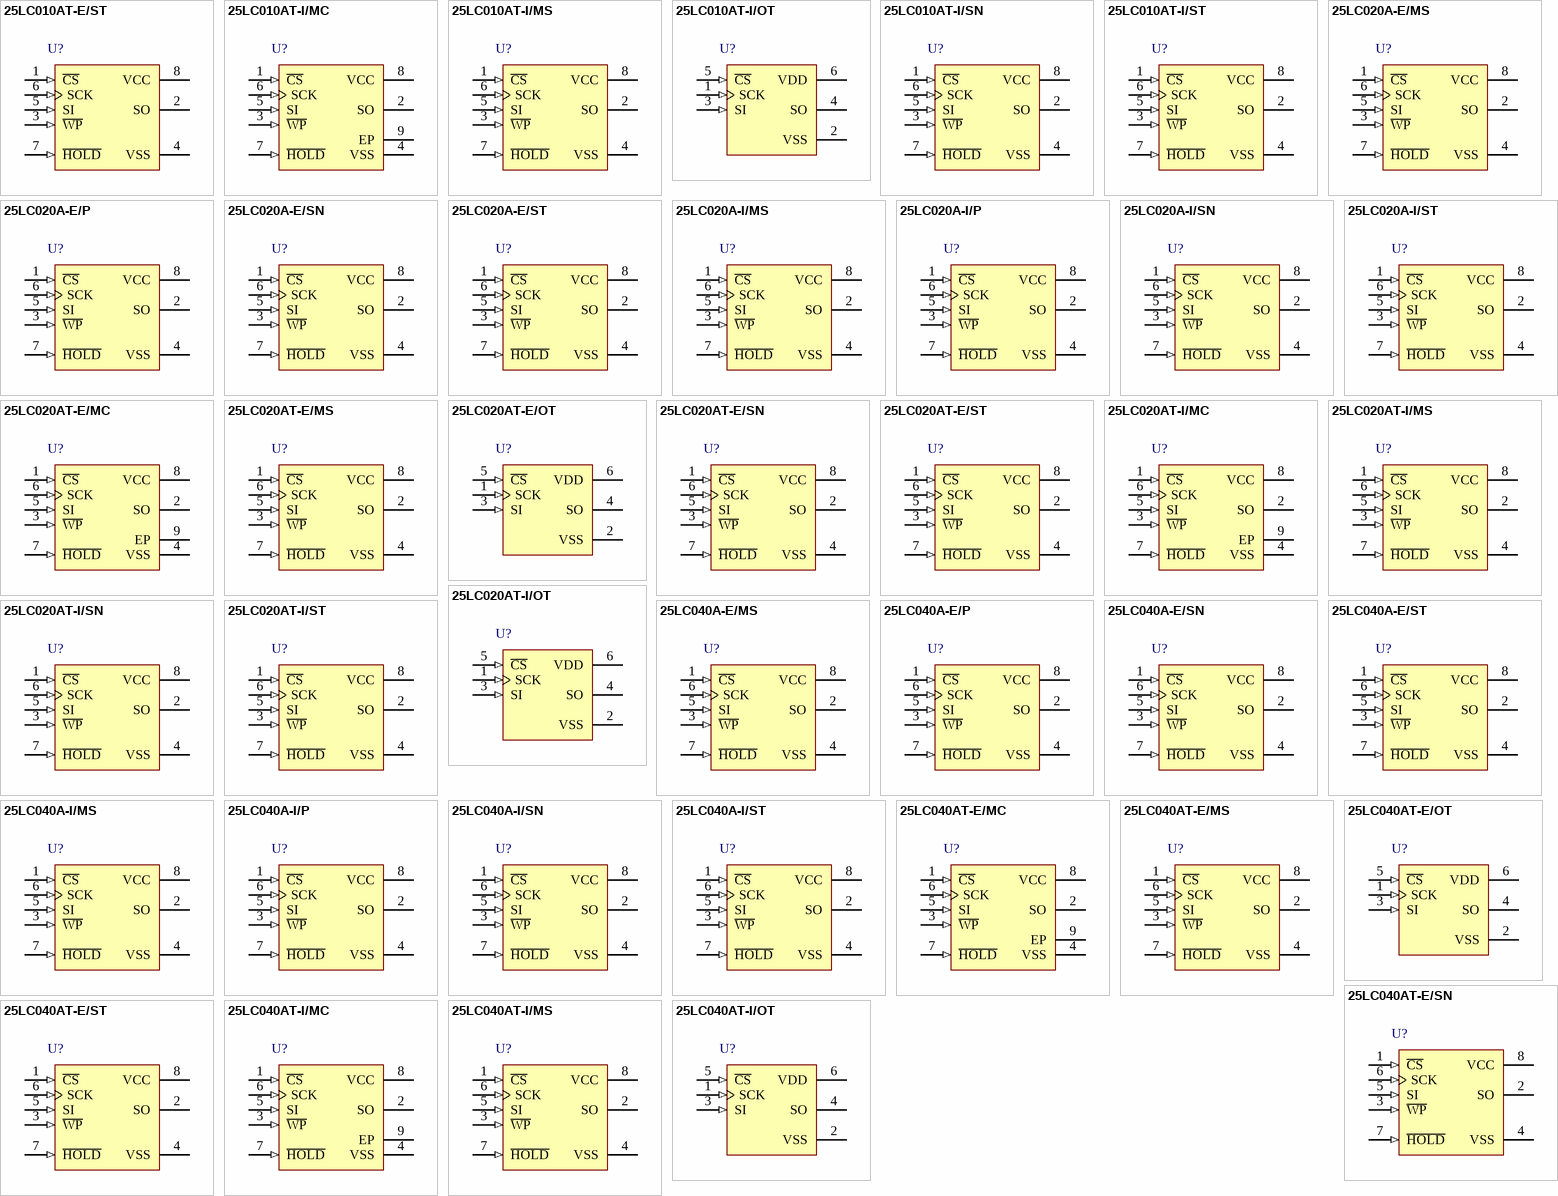
[diagram p4: symbols 25LC010AT-E/ST to 25LC040AT-I/OT]

## 25LC010AT-E/ST
designator U?
1K SPI Bus Serial EEPROM, 8-Pin TSSOP, Extended Temperature, Tape and Reel; Published: 29-Jan-2009; LatestRevisionDate: 02-Dec-2009; LatestRevisionNote: Updated to datasheet revision E, Jan-2008; DatasheetVersion: revE, Sep-2008; PackageVersion: revBB, Aug-2009; PackageReference: TSSOP-ST8; Publisher: Altium Limited; PackageDescription: 8-Lead Plastic Thin Shrink Small Outline (ST) - 4.4mm Body [TSSOP]; Supplier 1: Digi-Key; Supplier Part Number 1: 25LC010AT-E/ST-ND; Code_JEDEC: MO-153; ComponentLink1Description: Datasheet; ComponentLink1URL: http://ww1.microchip.com/downloads/en/DeviceDoc/21832E.pdf; ComponentLink2Description: Packaging Specification; ComponentLink2URL: http://www.microchip.com/stellent/groups/techpub_sg/documents/packagingspec/en012702.pdf; ComponentLink3Description: Microchip.com Home; ComponentLink3URL: http://www.microchip.com/
footprint TSSOP-ST8_N (TSOP, 8-Leads, Body 3x4.4mm, Pitch 0.65mm, IPC Medium Density)
footprint TSSOP-ST8_L (TSOP, 8-Leads, Body 3x4.4mm, Pitch 0.65mm, IPC High Density)
footprint TSSOP-ST8_M (TSOP, 8-Leads, Body 3x4.4mm, Pitch 0.65mm, IPC Low Density)
pins: 1 ~{CS} (in), 2 SO (hiz), 3 ~{WP} (in), 4 VSS (power), 5 SI (in), 6 SCK (in), 7 ~{HOLD} (in), 8 VCC (power)

## 25LC010AT-I/MC
designator U?
1K SPI Bus Serial EEPROM, 8-Pin DFN, Industrial Temperature, Tape and Reel; Published: 29-Jan-2009; LatestRevisionDate: 02-Dec-2009; LatestRevisionNote: Updated to datasheet revision E, Jan-2008; DatasheetVersion: revE, Sep-2008; PackageVersion: revBB, Aug-2009; PackageReference: DFN-MC8; Publisher: Altium Limited; PackageDescription: 8-Lead Plastic Dual Flat, No Lead Package (MC) - 2x3x0.9mm Body [DFN]; Supplier 1: Digi-Key; Supplier Part Number 1: 25LC010AT-I/MC-ND; ComponentLink1Description: Datasheet; ComponentLink1URL: http://ww1.microchip.com/downloads/en/DeviceDoc/21832E.pdf; ComponentLink2Description: Packaging Specification; ComponentLink2URL: http://www.microchip.com/stellent/groups/techpub_sg/documents/packagingspec/en012702.pdf; ComponentLink3Description: Microchip.com Home; ComponentLink3URL: http://www.microchip.com/
footprint DFN-MC8 (SON, 8-Leads, Body 2x3mm, Pitch 0.5mm, Microchip Recommended)
pins: 1 ~{CS} (in), 2 SO (hiz), 3 ~{WP} (in), 4 VSS (power), 5 SI (in), 6 SCK (in), 7 ~{HOLD} (in), 8 VCC (power), 9 EP

## 25LC010AT-I/MS
designator U?
1K SPI Bus Serial EEPROM, 8-Pin MSOP, Industrial Temperature, Tape and Reel; Published: 29-Jan-2009; LatestRevisionDate: 02-Dec-2009; LatestRevisionNote: Updated to datasheet revision E, Jan-2008; DatasheetVersion: revE, Sep-2008; PackageVersion: revBB, Aug-2009; PackageReference: MSOP-MS8; Publisher: Altium Limited; PackageDescription: 8-Lead Plastic Micro Small Outline Package (MS) [MSOP]; Supplier 1: Digi-Key; Supplier Part Number 1: 25LC010AT-I/MS-ND; ComponentLink1Description: Datasheet; ComponentLink1URL: http://ww1.microchip.com/downloads/en/DeviceDoc/21832E.pdf; ComponentLink2Description: Packaging Specification; ComponentLink2URL: http://www.microchip.com/stellent/groups/techpub_sg/documents/packagingspec/en012702.pdf; ComponentLink3Description: Microchip.com Home; ComponentLink3URL: http://www.microchip.com/
footprint MSOP-MS8_N (TSOP, 8-Leads, Body 3x3mm, Pitch 0.65mm, IPC Medium Density)
footprint MSOP-MS8_L (TSOP, 8-Leads, Body 3x3mm, Pitch 0.65mm, IPC High Density)
footprint MSOP-MS8_M (TSOP, 8-Leads, Body 3x3mm, Pitch 0.65mm, IPC Low Density)
pins: 1 ~{CS} (in), 2 SO (hiz), 3 ~{WP} (in), 4 VSS (power), 5 SI (in), 6 SCK (in), 7 ~{HOLD} (in), 8 VCC (power)

## 25LC010AT-I/OT
designator U?
1K SPI Bus Serial EEPROM, 6-Pin SOT-23, Industrial Temperature, Tape and Reel; Published: 29-Jan-2009; LatestRevisionDate: 02-Dec-2009; LatestRevisionNote: Updated to datasheet revision E, Jan-2008; DatasheetVersion: revE, Sep-2008; PackageVersion: revBB, Aug-2009; PackageReference: SOT-23-OT6; Publisher: Altium Limited; PackageDescription: 6-Lead Plastic Small Outline Transistor (OT) [SOT-23]; Supplier 1: Digi-Key; Supplier Part Number 1: 25LC010AT-I/OTTR-ND; Supplier 2: Digi-Key; Supplier Part Number 2: 25LC010AT-I/OTCT-ND; Supplier 3: Digi-Key; Supplier Part Number 3: 25LC010AT-I/OTDKR-ND; Supplier 4: Farnell; Supplier Part Number 4: 1331379; Code_IPC: SOT26A-6; ComponentLink1Description: Datasheet; ComponentLink1URL: http://ww1.microchip.com/downloads/en/DeviceDoc/21832E.pdf; ComponentLink2Description: Packaging Specification; ComponentLink2URL: http://www.microchip.com/stellent/groups/techpub_sg/documents/packagingspec/en012702.pdf; ComponentLink3Description: Microchip.com Home; ComponentLink3URL: http://www.microchip.com/
footprint SOT-23-OT6_N (SOT23, 6-Leads, Body 2.9x1.6mm, Pitch 0.95mm, Lead Span 2.7mm, IPC Medium Density)
footprint SOT-23-OT6_L (SOT23, 6-Leads, Body 2.9x1.6mm, Pitch 0.95mm, Lead Span 2.7mm, IPC High Density)
footprint SOT-23-OT6_M (SOT23, 6-Leads, Body 2.9x1.6mm, Pitch 0.95mm, Lead Span 2.7mm, IPC Low Density)
pins: 1 SCK (in), 2 VSS (power), 3 SI (in), 4 SO (hiz), 5 ~{CS} (in), 6 VDD (power)

## 25LC010AT-I/SN
designator U?
1K SPI Bus Serial EEPROM, 8-Pin SOIC, Industrial Temperature, Tape and Reel; Published: 29-Jan-2009; LatestRevisionDate: 02-Dec-2009; LatestRevisionNote: Updated to datasheet revision E, Jan-2008; DatasheetVersion: revE, Sep-2008; PackageVersion: revBB, Aug-2009; PackageReference: SOIC-SN8; Publisher: Altium Limited; PackageDescription: 8-Lead Plastic Small Outline (SN) - Narrow, 3.90mm Body [SOIC]; Supplier 1: Digi-Key; Supplier Part Number 1: 25LC010AT-I/SN-ND; Code_JEDEC: MS-012; Code_IPC: SOIC127P600-8; ComponentLink1Description: Datasheet; ComponentLink1URL: http://ww1.microchip.com/downloads/en/DeviceDoc/21832E.pdf; ComponentLink2Description: Packaging Specification; ComponentLink2URL: http://www.microchip.com/stellent/groups/techpub_sg/documents/packagingspec/en012702.pdf; ComponentLink3Description: Microchip.com Home; ComponentLink3URL: http://www.microchip.com/
footprint SOIC-SN8_N (SOIC, 8-Leads, Body 4.9x3.8mm, Pitch 1.27mm, IPC Medium Density)
footprint SOIC-SN8_L (SOIC, 8-Leads, Body 4.9x3.8mm, Pitch 1.27mm, IPC High Density)
footprint SOIC-SN8_M (SOIC, 8-Leads, Body 4.9x3.8mm, Pitch 1.27mm, IPC Low Density)
pins: 1 ~{CS} (in), 2 SO (hiz), 3 ~{WP} (in), 4 VSS (power), 5 SI (in), 6 SCK (in), 7 ~{HOLD} (in), 8 VCC (power)

## 25LC010AT-I/ST
designator U?
1K SPI Bus Serial EEPROM, 8-Pin TSSOP, Industrial Temperature, Tape and Reel; Published: 29-Jan-2009; LatestRevisionDate: 02-Dec-2009; LatestRevisionNote: Updated to datasheet revision E, Jan-2008; DatasheetVersion: revE, Sep-2008; PackageVersion: revBB, Aug-2009; PackageReference: TSSOP-ST8; Publisher: Altium Limited; PackageDescription: 8-Lead Plastic Thin Shrink Small Outline (ST) - 4.4mm Body [TSSOP]; Supplier 1: Digi-Key; Supplier Part Number 1: 25LC010AT-I/ST-ND; Code_JEDEC: MO-153; ComponentLink1Description: Datasheet; ComponentLink1URL: http://ww1.microchip.com/downloads/en/DeviceDoc/21832E.pdf; ComponentLink2Description: Packaging Specification; ComponentLink2URL: http://www.microchip.com/stellent/groups/techpub_sg/documents/packagingspec/en012702.pdf; ComponentLink3Description: Microchip.com Home; ComponentLink3URL: http://www.microchip.com/
footprint TSSOP-ST8_N (TSOP, 8-Leads, Body 3x4.4mm, Pitch 0.65mm, IPC Medium Density)
footprint TSSOP-ST8_L (TSOP, 8-Leads, Body 3x4.4mm, Pitch 0.65mm, IPC High Density)
footprint TSSOP-ST8_M (TSOP, 8-Leads, Body 3x4.4mm, Pitch 0.65mm, IPC Low Density)
pins: 1 ~{CS} (in), 2 SO (hiz), 3 ~{WP} (in), 4 VSS (power), 5 SI (in), 6 SCK (in), 7 ~{HOLD} (in), 8 VCC (power)

## 25LC020A-E/MS
designator U?
2K SPI Bus Serial EEPROM, 8-Pin MSOP, Extended Temperature; Published: 29-Jan-2009; DatasheetVersion: revD, Oct-2007; PackageVersion: revBB, Aug-2009; PackageReference: MSOP-MS8; Publisher: Altium Limited; PackageDescription: 8-Lead Plastic Micro Small Outline Package (MS) [MSOP]; Supplier 1: Digi-Key; Supplier Part Number 1: 25LC020A-E/MS-ND; ComponentLink1Description: Datasheet; ComponentLink1URL: http://ww1.microchip.com/downloads/en/DeviceDoc/21833D.pdf; ComponentLink2Description: Packaging Specification; ComponentLink2URL: http://www.microchip.com/stellent/groups/techpub_sg/documents/packagingspec/en012702.pdf; ComponentLink3Description: Microchip.com Home; ComponentLink3URL: http://www.microchip.com/
footprint MSOP-MS8_N (TSOP, 8-Leads, Body 3x3mm, Pitch 0.65mm, IPC Medium Density)
footprint MSOP-MS8_L (TSOP, 8-Leads, Body 3x3mm, Pitch 0.65mm, IPC High Density)
footprint MSOP-MS8_M (TSOP, 8-Leads, Body 3x3mm, Pitch 0.65mm, IPC Low Density)
pins: 1 ~{CS} (in), 2 SO (hiz), 3 ~{WP} (in), 4 VSS (power), 5 SI (in), 6 SCK (in), 7 ~{HOLD} (in), 8 VCC (power)

## 25LC020A-E/P
designator U?
2K SPI Bus Serial EEPROM, 8-Pin PDIP, Extended Temperature; Published: 29-Jan-2009; DatasheetVersion: revD, Oct-2007; PackageVersion: revBB, Aug-2009; PackageReference: PDIP300-P8; Publisher: Altium Limited; PackageDescription: 8-Lead Plastic Dual In-Line (P) - 300 mil Body [PDIP]; Supplier 1: Digi-Key; Supplier Part Number 1: 25LC020A-E/P-ND; Code_JEDEC: MS-001; ComponentLink1Description: Datasheet; ComponentLink1URL: http://ww1.microchip.com/downloads/en/DeviceDoc/21833D.pdf; ComponentLink2Description: Packaging Specification; ComponentLink2URL: http://www.microchip.com/stellent/groups/techpub_sg/documents/packagingspec/en012702.pdf; ComponentLink3Description: Microchip.com Home; ComponentLink3URL: http://www.microchip.com/
footprint PDIP300-P8 (DIP, 8-Leads, Row Spacing 7.62mm, Pitch 2.54mm, Body 9.5x6.6mm)
pins: 1 ~{CS} (in), 2 SO (hiz), 3 ~{WP} (in), 4 VSS (power), 5 SI (in), 6 SCK (in), 7 ~{HOLD} (in), 8 VCC (power)